# EAGLE library part 2X3HEAD (library Teensy356)
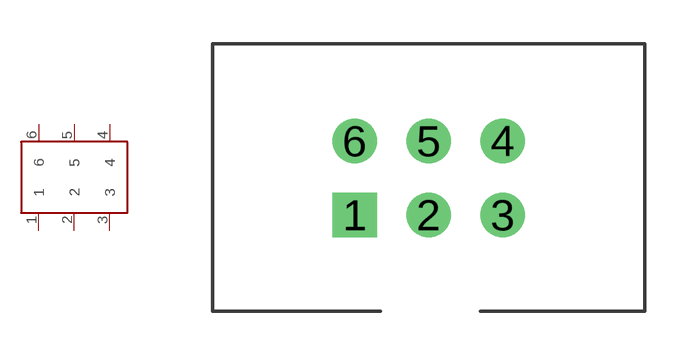
[diagram p2: symbol with the pads of 2X3HEADER; footprint 2X3HEADER]

Designator prefix -

## 2X3HEAD  [2X3HEADER]
1  1
2  2
3  3
4  4
5  5
6  6

## Footprint 2X3HEADER (pad centres in mm)
drill 1.02 square: 1 0,0
drill 1.02: 2 2.54,0; 3 5.08,0; 4 5.08,2.54; 5 2.54,2.54; 6 0,2.54